# EAGLE library part STM32F030K6T6 (library lightmeter)
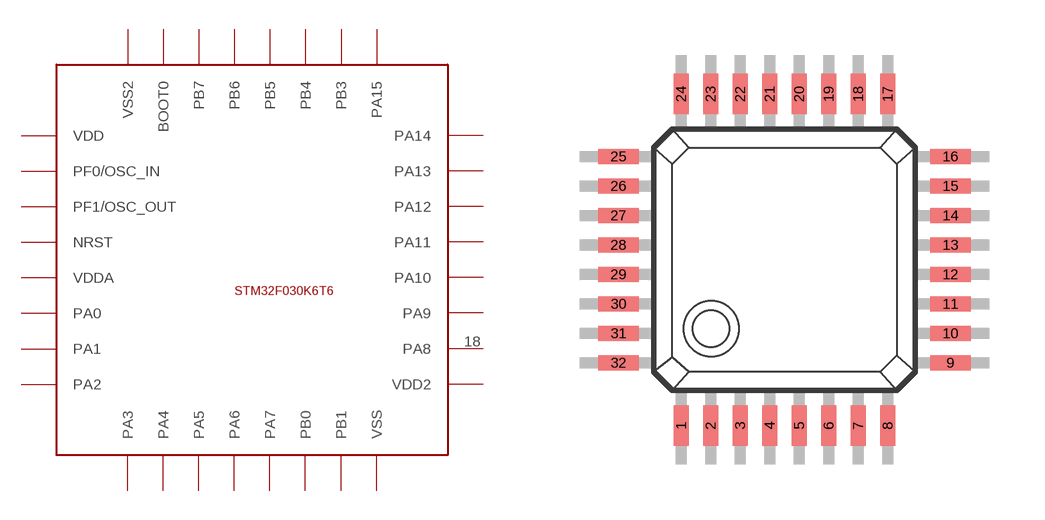
[diagram p3: symbol with the pads of QFP-32; footprint QFP-32]

Designator prefix -

## STM32F030K6T6  [QFP-32]
1  VDD
2  PF0/OSC_IN
3  PF1/OSC_OUT
4  NRST
5  VDDA
6  PA0
7  PA1
8  PA2
9  PA3
10  PA4
11  PA5
12  PA6
13  PA7
14  PB0
15  PB1
16  VSS
17  VDD2
18  PA8
19  PA9
20  PA10
21  PA11
22  PA12
23  PA13
24  PA14
25  PA15
26  PB3
27  PB4
28  PB5
29  PB6
30  PB7
31  BOOT0
32  VSS2

## Footprint QFP-32 (pad centres in mm)
Quad Flat Package
smd 0.4 x 1.1: 1 -2.4,-4.1; 2 -1.6,-4.1; 3 -0.8,-4.1; 4 0,-4.1; 5 0.8,-4.1; 6 1.6,-4.1; 7 2.4,-4.1; 8 3.2,-4.1; 17 3.2,4.9; 18 2.4,4.9; 19 1.6,4.9; 20 0.8,4.9; 21 0,4.9; 22 -0.8,4.9; 23 -1.6,4.9; 24 -2.4,4.9
smd 1.1 x 0.4: 9 4.9,-2.4; 10 4.9,-1.6; 11 4.9,-0.8; 12 4.9,0; 13 4.9,0.8; 14 4.9,1.6; 15 4.9,2.4; 16 4.9,3.2; 25 -4.1,3.2; 26 -4.1,2.4; 27 -4.1,1.6; 28 -4.1,0.8; 29 -4.1,0; 30 -4.1,-0.8; 31 -4.1,-1.6; 32 -4.1,-2.4